# EAGLE library part UPRA-CAN (library UPRA_CAN)
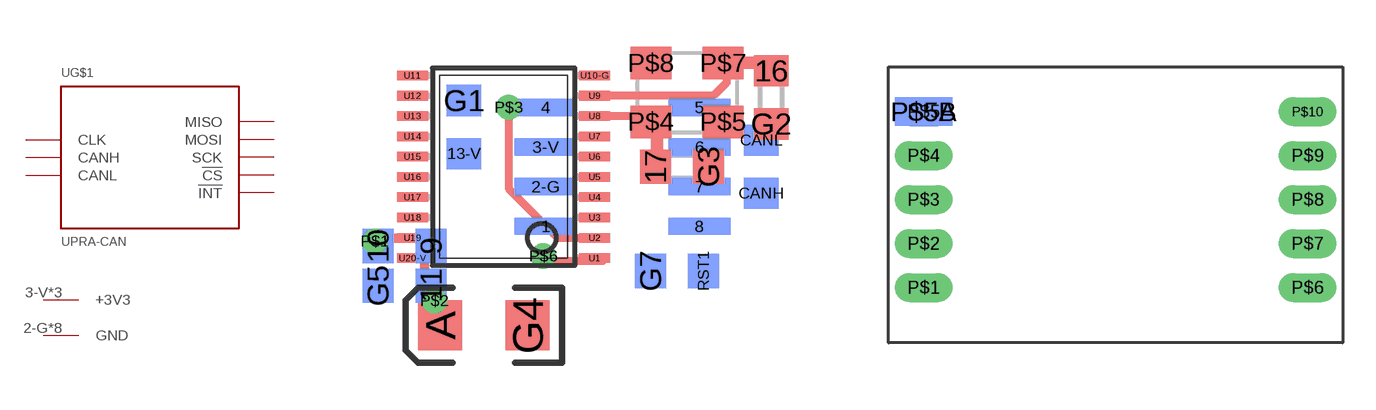
[diagram p1: symbol with the pads of UPRA-CAN-PCB; footprints UPRA-CAN-PCB, UPRA-CAN-TH]

Designator prefix U; gates G$1=UPRA-CAN G$2=+3V3 G$3=GND

## UPRA-CAN-PCB  [UPRA-CAN-PCB]
2-G  G$3:GND  pwr
3-V  G$2:+3V3  pwr
13-V  G$2:+3V3  pwr
CANH  G$1:CANH
CANL  G$1:CANL
G1  G$3:GND  pwr
G2  G$3:GND  pwr
G3  G$3:GND  pwr
G4  G$3:GND  pwr
G5  G$3:GND  pwr
G7  G$3:GND  pwr
U3  G$1:CLK
U10-G  G$3:GND  pwr
U13  G$1:!INT
U14  G$1:SCK
U16  G$1:MOSI
U17  G$1:MISO
U18  G$1:!CS
U20-V  G$2:+3V3  pwr

## UPRA-CAN-TH  [UPRA-CAN-TH]
P$1  G$1:!INT
P$2  G$1:!CS
P$3  G$1:MOSI
P$4  G$1:MISO
P$5  G$1:SCK
P$5A  G$1:SCK
P$5B  G$1:SCK
P$6  G$3:GND  pwr
P$7  G$1:CANL
P$8  G$1:CANH
P$9  G$1:CLK
P$10  G$2:+3V3  pwr

## UPRA-CAN-SMD  [UPRA-CAN-SMD]
P$1  G$1:!INT
P$2  G$1:!CS
P$3  G$1:MOSI
P$4  G$1:MISO
P$5  G$1:SCK
P$6  G$3:GND  pwr
P$7  G$1:CANL
P$8  G$1:CANH
P$9  G$1:CLK
P$10  G$2:+3V3  pwr

## Footprint UPRA-CAN-PCB (pad centres in mm)
smd 1.981 x 0.559 bottom: 1 -0.718,-2.064; 2-G -0.718,-0.794; 3-V -0.718,0.476; 4 -0.718,1.746; 5 4.21,1.746; 6 4.21,0.476; 7 4.21,-0.794; 8 4.21,-2.064
smd 1 x 1.1 bottom: 9 -4.389,-2.699; 10 -6.089,-2.699; 11 -4.389,-3.969; G5 -6.089,-3.969; G7 2.643,-3.493; RST1 4.343,-3.493
smd 1.1 x 1 bottom: 13-V -3.334,0.261; CANH 6.191,-1.009; CANL 6.191,0.691; G1 -3.334,1.961
smd 1.1 x 1: 16 6.509,2.914; G2 6.509,1.214
smd 1 x 1.1: 17 2.801,-0.159; G3 4.501,-0.159
smd 1.4 x 1.6: A -4.099,-5.239; G4 -1.299,-5.239
drill 0.3: P$1 -6.191,-2.54; P$2 -4.286,-4.445; P$3 -1.905,1.746; P$6 -0.794,-3.016
smd 1.321 x 1.041: P$4 2.654,1.283; P$5 4.966,1.283; P$7 4.966,3.162; P$8 2.654,3.162
smd 0.991 x 0.305: U1 0.854,-3.084; U2 0.854,-2.434; U3 0.854,-1.784; U4 0.854,-1.134; U5 0.854,-0.484; U6 0.854,0.166; U7 0.854,0.816; U8 0.854,1.466; U9 0.854,2.116; U10-G 0.854,2.766; U11 -4.982,2.766; U12 -4.982,2.116; U13 -4.982,1.466; U14 -4.982,0.816; U15 -4.982,0.166; U16 -4.982,-0.484; U17 -4.982,-1.134; U18 -4.982,-1.784; U19 -4.982,-2.434; U20-V -4.982,-3.084

## Footprint UPRA-CAN-TH (pad centres in mm)
drill 0.8 long: P$1 -8.73,-4; P$2 -8.73,-2; P$3 -8.73,0; P$4 -8.73,2; P$5 -8.73,4; P$6 8.73,-4; P$7 8.73,-2; P$8 8.73,0; P$9 8.73,2; P$10 8.73,4
smd 2.6 x 1.3 bottom: P$5A -8.73,4
smd 2.6 x 1.3: P$5B -8.73,4

## Footprint UPRA-CAN-SMD (pad centres in mm)
smd 2.6 x 1.5: P$1 -11.19,-4; P$2 -11.19,-2; P$3 -11.19,0; P$4 -11.19,2; P$5 -11.19,4; P$6 11.19,-4; P$7 11.19,-2; P$8 11.19,0; P$9 11.19,2; P$10 11.19,4